# EAGLE library part MCP1407-E/P (library MTS-OTR_Custom)
6A High-Speed Power MOSFET Driver
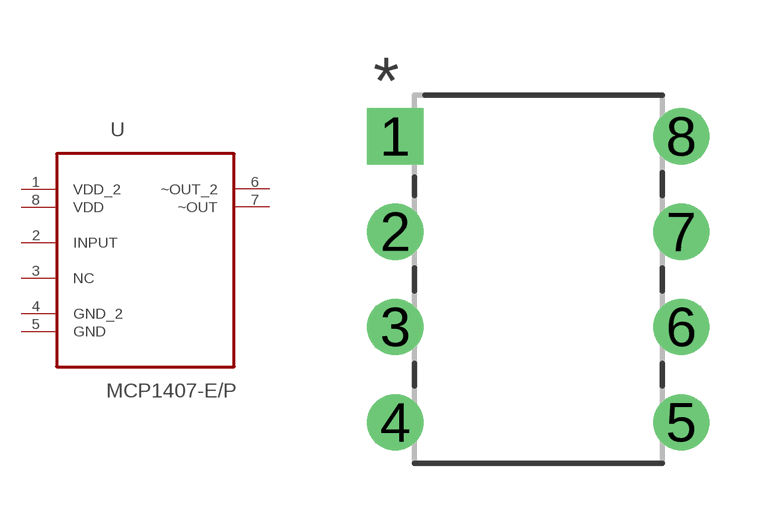
[diagram p33: symbol with the pads of DIP254P762X432-8; footprint DIP254P762X432-8]

Designator prefix -

## MCP1407-E/P (AVAILABILITY: Good; DESCRIPTION: MCP1407 Series 6 A 18 Vmax Low Side Non-Inverting MOSFET Driver - PDIP-8; MF: Microchip; MP: MCP1407-E/P; PACKAGE: PDIP-8 Microchip; PRICE: 0.93 USD)  [DIP254P762X432-8]
1  VDD_2  pwr
2  INPUT  in
3  NC  nc
4  GND_2  pas
5  GND  pas
6  ~OUT_2  out
7  ~OUT  out
8  VDD  pwr

## Footprint DIP254P762X432-8 (pad centres in mm)
drill 0.991 square: 1 -7.62,7.62
drill 0.991: 2 -7.62,5.08; 3 -7.62,2.54; 4 -7.62,0; 5 0,0; 6 0,2.54; 7 0,5.08; 8 0,7.62